# Altium schematic symbol library 2021-04-01_09-06-49.SchLib: 2 symbols
Pins are listed as number, name and electrical type; pins without a type are passive.

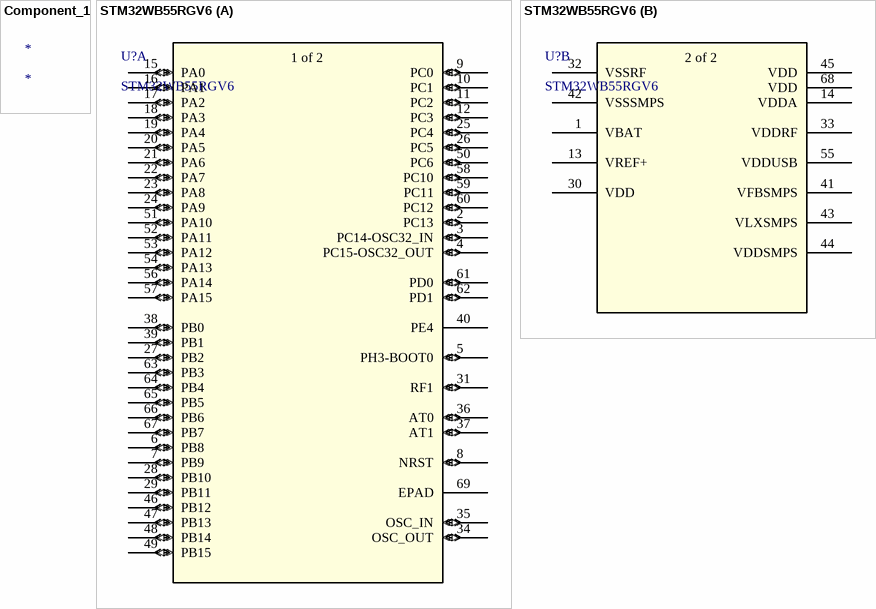
[diagram p0: symbols Component_1 to STM32WB55RGV6]

## Component_1
designator *

## STM32WB55RGV6
designator U?
No Description Available; Vendor: STMicroelectronics; Built_By: EMA_UL_Team; SourceLibrary: Updates_to_database_2020-10-19; Manufacturer_Part_Number: STM32WB55RGV6; Copyright: Copyright (C) 2018 Accelerated Designs. All rights reserved; RefDes: RefDes; Type: DEV
footprint VFQFN68-8x8mm
part A pins: 2 PC13 (io), 3 PC14-OSC32_IN (io), 4 PC15-OSC32_OUT (io), 5 PH3-BOOT0 (io), 6 PB8 (io), 7 PB9 (io), 8 NRST (io), 9 PC0 (io), 10 PC1 (io), 11 PC2 (io), 12 PC3 (io), 15 PA0 (io), 16 PA1 (io), 17 PA2 (io), 18 PA3 (io), 19 PA4 (io), 20 PA5 (io), 21 PA6 (io), 22 PA7 (io), 23 PA8 (io), 24 PA9 (io), 25 PC4 (io), 26 PC5 (io), 27 PB2 (io), 28 PB10 (io), 29 PB11 (io), 31 RF1 (io), 34 OSC_OUT (io), 35 OSC_IN (io), 36 AT0 (io), 37 AT1 (io), 38 PB0 (io), 39 PB1 (io), 40 PE4 (power), 46 PB12 (io), 47 PB13 (io), 48 PB14 (io), 49 PB15 (io), 50 PC6 (io), 51 PA10 (io), 52 PA11 (io), 53 PA12 (io), 54 PA13 (io), 56 PA14 (io), 57 PA15 (io), 58 PC10 (io), 59 PC11 (io), 60 PC12 (io), 61 PD0 (io), 62 PD1 (io), 63 PB3 (io), 64 PB4 (io), 65 PB5 (io), 66 PB6 (io), 67 PB7 (io), 69 EPAD
part B pins: 1 VBAT (power), 13 VREF+ (power), 14 VDDA (power), 30 VDD (power), 32 VSSRF (power), 33 VDDRF (power), 41 VFBSMPS (power), 42 VSSSMPS (power), 43 VLXSMPS (power), 44 VDDSMPS (power), 45 VDD (power), 55 VDDUSB (power), 68 VDD (power)
part A text: 1 of 2
part B text: 2 of 2